# Altium schematic symbol library QFN50P500X500X80-33N.SchLib: 1 symbol
Pins are listed as number, name and electrical type; pins without a type are passive.

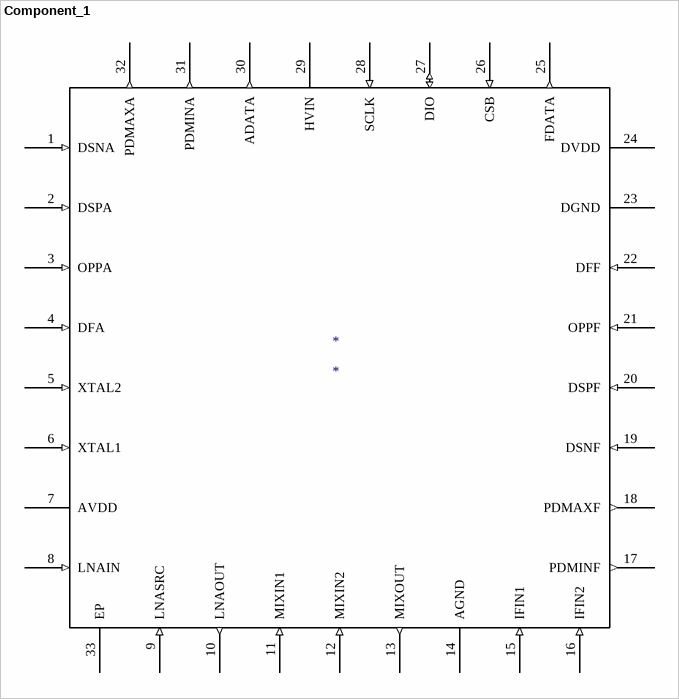
[diagram p0: symbol Component_1]

## Component_1
designator *
pins: 1 DSNA (in), 2 DSPA (in), 3 OPPA (in), 4 DFA (in), 5 XTAL2 (in), 6 XTAL1 (in), 7 AVDD (power), 8 LNAIN (in), 9 LNASRC (in), 10 LNAOUT (out), 11 MIXIN1 (in), 12 MIXIN2 (in), 13 MIXOUT (out), 14 AGND (power), 15 IFIN1 (in), 16 IFIN2 (in), 17 PDMINF (out), 18 PDMAXF (out), 19 DSNF (in), 20 DSPF (in), 21 OPPF (in), 22 DFF (in), 23 DGND (power), 24 DVDD (power), 25 FDATA (out), 26 CSB (in), 27 DIO (io), 28 SCLK (in), 29 HVIN (power), 30 ADATA (out), 31 PDMINA (out), 32 PDMAXA (out), 33 EP (power)